# Altium schematic symbol library BYV26.SchLib: 1 symbol
Pins are listed as number, name and electrical type; pins without a type are passive.

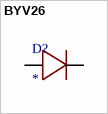
[diagram p0: symbol BYV26]

## BYV26
designator D?
footprint SOD-57 (2s151)
pins: 1 2, 2 1